# Altium schematic symbol library S1G-13-F.SchLib: 2 symbols
Pins are listed as number, name and electrical type; pins without a type are passive.

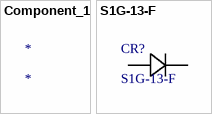
[diagram p0: symbols Component_1 to S1G-13-F]

## Component_1
designator *
footprint SMA_DIO

## S1G-13-F
designator CR?
No Description Available; Mfr_Name: Diodes Inc; Type: DEV; Copyright: Copyright (C) 2022 Ultra Librarian. All rights reserved.; Manufacturer_Part_Number: S1G-13-F; Digi-Key_Part_Number_1: S1G-FDICT-ND; Digi-Key_Part_Number_2: S1G-FDIDKR-ND; Digi-Key_Part_Number_3: S1G-FDITR-ND; RefDes: RefDes
footprint SMA_DIO
pins: 1, 2